# Altium schematic symbol library 野火_F429_F767_H743挑战者_底板_V2_0_原理图封装库_AD格式.SCHLIB: 126 symbols
Pins are listed as number, name and electrical type; pins without a type are passive.

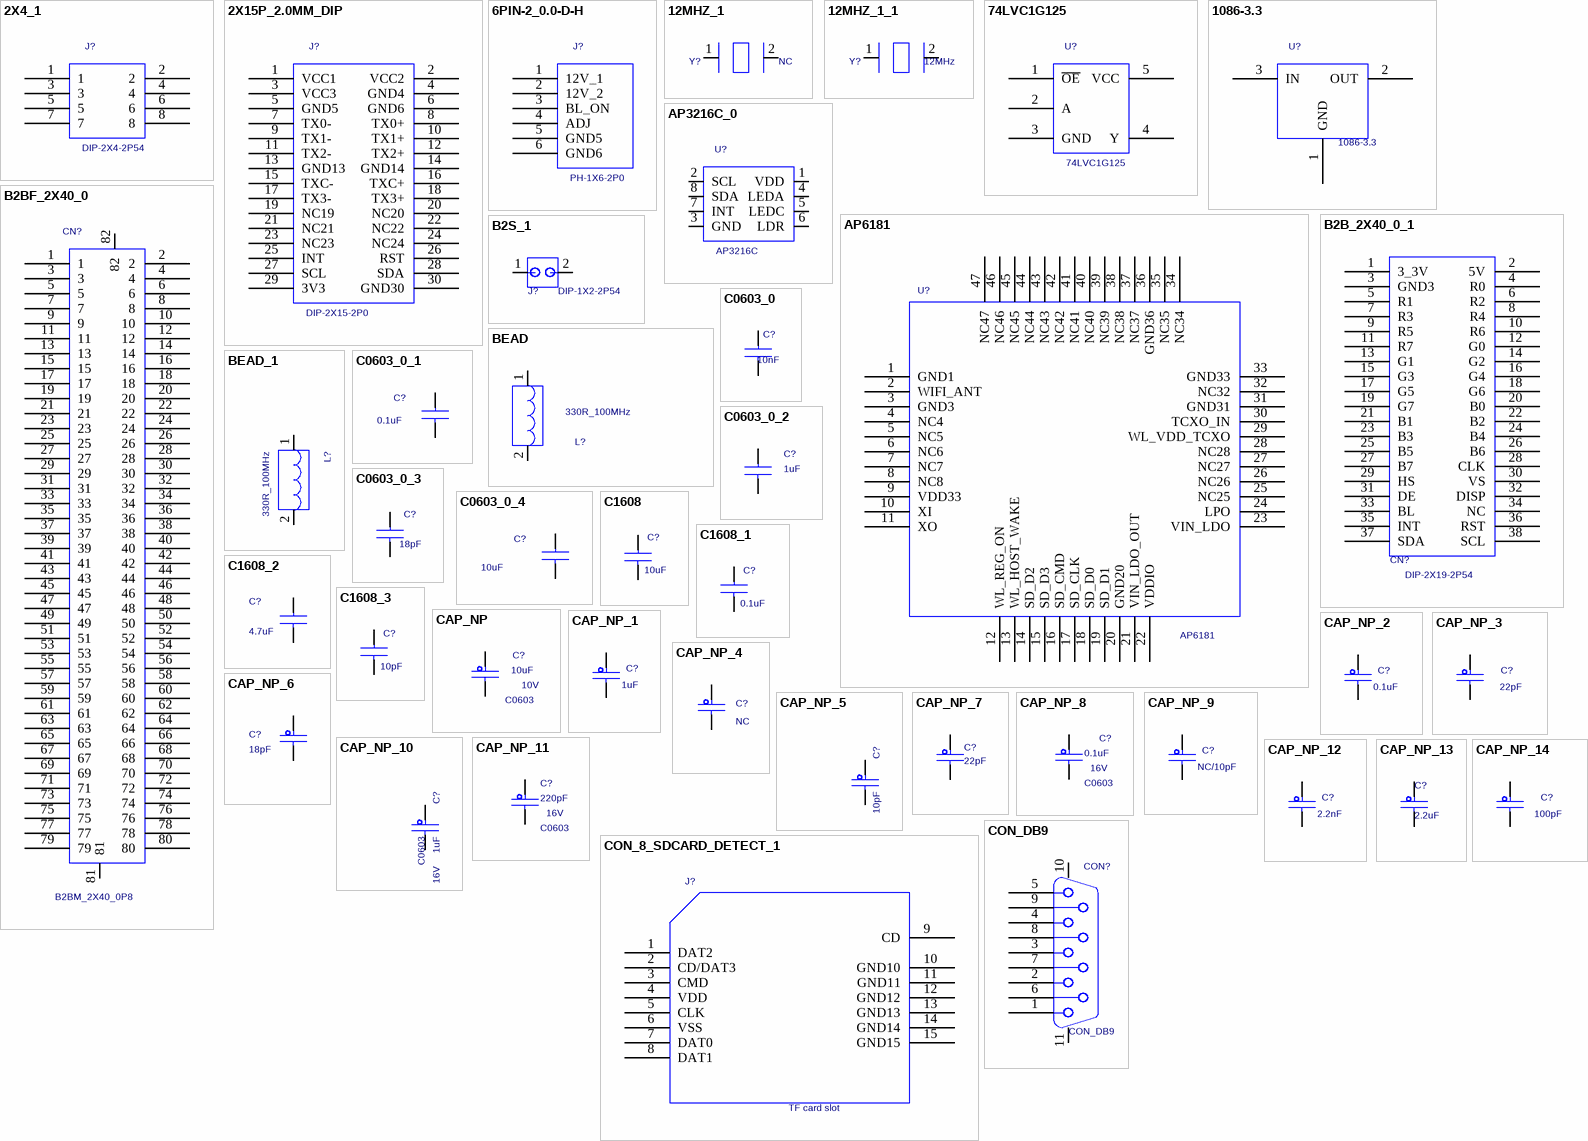
[diagram p0: symbols 2X4_1 to CON_DB9]

## 2X4_1
designator J?  value DIP-2X4-2P54  (hidden comment: 2X4_1)
Source_Path: D:\NXP_RT1050\RT1050_MB_PRO\SCH\IMXRT1052_MB_PRO_0321.DSN; PCB DECAL: DIP-2X4-2P54
footprint DIP-2X4-2P54
pins: 1, 2, 3, 4, 5, 6, 7, 8

## 2X15P_2.0MM_DIP
designator J?  value DIP-2X15-2P0  (hidden comment: 2X15P_2.0MM_DIP)
Source_Path: H:\NXP_RT1050\SCH\SCHLIB\YHSCHLIB.OLB; PCB DECAL: DIP-2X15-2P0
footprint DIP-2X15-2P0
pins: 1 VCC1, 2 VCC2, 3 VCC3, 4 GND4, 5 GND5, 6 GND6, 7 TX0-, 8 TX0+, 9 TX1-, 10 TX1+, 11 TX2-, 12 TX2+, 13 GND13, 14 GND14, 15 TXC-, 16 TXC+, 17 TX3-, 18 TX3+, 19 NC19, 20 NC20, 21 NC21, 22 NC22, 23 NC23, 24 NC24, 25 INT, 26 RST, 27 SCL, 28 SDA, 29 3V3, 30 GND30

## 6PIN-2_0.0-D-H
designator J?  value PH-1X6-2P0  (hidden comment: 6PIN-2_0.0-D-H)
Source_Path: H:\NXP_RT1050\SCH\IMXRT1052_MB.DSN; PCB DECAL: PH-1X6-2P0
footprint PH-1X6-2P0
pins: 1 12V_1, 2 12V_2, 3 BL_ON, 4 ADJ, 5 GND5, 6 GND6

## 12MHZ_1
designator Y?  value NC  (hidden comment: 12MHZ_1)
PCB DECAL: XTAL-DIP; Source_Path: H:\NXP_RT1050\SCH\IMXRT1052_MB.DSN
footprint XTAL-DIP
pins: 1, 2

## 12MHZ_1_1
designator Y?, comment value 12MHz  (hidden comment: 12MHZ_1)
PCB DECAL: XTAL_SMD; Source_Path: H:\NXP_RT1050\SCH\IMXRT1052_MB.DSN
footprint XTAL_SMD
pins: 1, 2

## 74LVC1G125
designator U?
PCB DECAL: SOT-353; Source_Path: C:\MYPROGRAM\CADENCE\SPB_16.6\TOOLS\CAPTURE\LIBRARY\SCH.OLB; Value: 74LVC1G125
footprint SOT-353
pins: 1 ~{OE}, 2 A, 3 GND, 4 Y, 5 VCC

## 1086-3.3
designator U?
PCB DECAL: TO252-2; Source_Path: H:\NXP_RT1050\SCH\SCHLIB\YHSCHLIB.OLB; Value: 1086-3.3
footprint TO252-2
pins: 1 GND, 2 OUT, 3 IN

## AP3216C_0
designator U?  value AP3216C  (hidden comment: AP3216C_0)
Source_Path: D:\NXP_RT1050\RT1050_MB_PRO\SCH\IMXRT1052_MB_PRO_0414.DSN; PCB DECAL: AP3216C
footprint AP3216C
pins: 1 VDD, 2 SCL, 3 GND, 4 LEDA, 5 LEDC, 6 LDR, 7 INT, 8 SDA

## AP6181
designator U?
Source_Path: H:\NXP_RT1050\SCH\SCHLIB\YHSCHLIB.OLB; PCB DECAL: AP6181; Value: AP6181
footprint AP6181
pins: 1 GND1, 2 WIFI_ANT, 3 GND3, 4 NC4, 5 NC5, 6 NC6, 7 NC7, 8 NC8, 9 VDD33, 10 XI, 11 XO, 12 WL_REG_ON, 13 WL_HOST_WAKE, 14 SD_D2, 15 SD_D3, 16 SD_CMD, 17 SD_CLK, 18 SD_D0, 19 SD_D1, 20 GND20, 21 VIN_LDO_OUT, 22 VDDIO, 23 VIN_LDO, 24 LPO, 25 NC25, 26 NC26, 27 NC27, 28 NC28, 29 WL_VDD_TCXO, 30 TCXO_IN, 31 GND31, 32 NC32, 33 GND33, 34 NC34, 35 NC35, 36 GND36, 37 NC37, 38 NC38, 39 NC39, 40 NC40, 41 NC41, 42 NC42, 43 NC43, 44 NC44, 45 NC45, 46 NC46, 47 NC47

## B2B_2X40_0_1
designator CN?  value DIP-2X19-2P54  (hidden comment: B2B_2X40_0_1)
Source_Path: H:\NXP_RT1050\SCH\IMXRT1052_MB.DSN; PCB DECAL: DIP-2X19-2P54
footprint DIP-2X19-2P54
pins: 1 3_3V, 2 5V, 3 GND3, 4 R0, 5 R1, 6 R2, 7 R3, 8 R4, 9 R5, 10 R6, 11 R7, 12 G0, 13 G1, 14 G2, 15 G3, 16 G4, 17 G5, 18 G6, 19 G7, 20 B0, 21 B1, 22 B2, 23 B3, 24 B4, 25 B5, 26 B6, 27 B7, 28 CLK, 29 HS, 30 VS, 31 DE, 32 DISP, 33 BL, 34 NC, 35 INT, 36 RST, 37 SDA, 38 SCL

## B2BF_2X40_0
designator CN?  value B2BM_2X40_0P8  (hidden comment: B2BF_2X40_0)
PCB DECAL: B2BM-2X40-0P8; Source_Path: F:\STM32\H750\SCH\野火_H750 PRO底板_原理图_V1_0.DSN
footprint B2BM-2X40-0P8
pins: 1, 2, 3, 4, 5, 6, 7, 8, 9, 10, 11, 12, 13, 14, 15, 16, 17, 18, 19, 20, 21, 22, 23, 24, 25, 26, 27, 28, 29, 30, 31, 32, 33, 34, 35, 36, 37, 38, 39, 40, 41, 42, 43, 44, 45, 46, 47, 48, 49, 50, 51, 52, 53, 54, 55, 56, 57, 58, 59, 60, 61, 62, 63, 64, 65, 66, 67, 68, 69, 70, 71, 72, 73, 74, 75, 76, 77, 78, 79, 80, 81, 82

## B2S_1
designator J?  value DIP-1X2-2P54  (hidden comment: B2S_1)
PCB DECAL: HDR102; Source_Path: F:\STM32\F429\SCH\V4\STM32F429_F767_H743_MB_1129.DSN
footprint HDR102
pins: 1, 2

## BEAD
designator L?  value 330R_100MHz  (hidden comment: BEAD)
IND FER BEAD 330OHM@100MHZ 1.7A 0603; PART_TYPE: FERRITE\BEAD; PCB DECAL: L0603; AGILE_PN: 180-78156; Tolerance: 25%; MFG_NAME01: TDK; MFG_PN01: MPZ1608S331A; CAD_APPROVED: Yes; Source_Path: Q:\ORCADCIS\SYMBOLS\FCL_INDUCTOR.OLB; CLASS: DISCRETE; ROHS: Yes; HEIGHT: 0.95MM; TOL: 25%
footprint L0603
pins: 1, 2

## BEAD_1
designator L?, comment value 330R_100MHz  (hidden comment: BEAD)
PCB DECAL: L0603; Source_Path: Q:\ORCADCIS\SYMBOLS\FCL_INDUCTOR.OLB; CLASS: DISCRETE
footprint L0603
pins: 1, 2

## C0603_0
designator C?  value 10nF  (hidden comment: C0603_0)
PCB DECAL: C0603; Source_Path: E:\WORK\迅为\郭建岭\4412核心板_底板\谭工_底板\MAINBOARD_V1-1128.DSN
footprint C0603
pins: 1, 2

## C0603_0_1
designator C?, comment value 0.1uF  (hidden comment: C0603_0)
PCB DECAL: C0603; Source_Path: E:\WORK\迅为\郭建岭\4412核心板_底板\谭工_底板\MAINBOARD_V1-1128.DSN
footprint C0603
pins: 1, 2

## C0603_0_2
designator C?, comment value 1uF  (hidden comment: C0603_0)
PCB DECAL: C0603; Source_Path: E:\WORK\迅为\郭建岭\4412核心板_底板\谭工_底板\MAINBOARD_V1-1128.DSN
footprint C0603
pins: 1, 2

## C0603_0_3
designator C?, comment value 18pF  (hidden comment: C0603_0)
PCB DECAL: C0603; Source_Path: E:\WORK\迅为\郭建岭\4412核心板_底板\谭工_底板\MAINBOARD_V1-1128.DSN
footprint C0603
pins: 1, 2

## C0603_0_4
designator C?, comment value 10uF  (hidden comment: C0603_0)
PCB DECAL: C0603; Source_Path: E:\WORK\迅为\郭建岭\4412核心板_底板\谭工_底板\MAINBOARD_V1-1128.DSN
footprint C0603
pins: 1, 2

## C1608
designator C?  value 10uF  (hidden comment: C1608)
PCB DECAL: C0603; Source_Path: D:\SOPGODS_VIEW_AP\MOBILE_AP_APPLICATION\LIBRARY\ORCAD\DEVICE.OLB
footprint C0603
pins: 1, 2

## C1608_1
designator C?, comment value 0.1uF  (hidden comment: C1608)
PCB DECAL: C0603; Source_Path: D:\SOPGODS_VIEW_AP\MOBILE_AP_APPLICATION\LIBRARY\ORCAD\DEVICE.OLB
footprint C0603
pins: 1, 2

## C1608_2
designator C?, comment value 4.7uF  (hidden comment: C1608)
PCB DECAL: C0603; Source_Path: D:\SOPGODS_VIEW_AP\MOBILE_AP_APPLICATION\LIBRARY\ORCAD\DEVICE.OLB
footprint C0603
pins: 1, 2

## C1608_3
designator C?, comment value 10pF  (hidden comment: C1608)
PCB DECAL: C0603; Source_Path: D:\SOPGODS_VIEW_AP\MOBILE_AP_APPLICATION\LIBRARY\ORCAD\DEVICE.OLB
footprint C0603
pins: 1, 2

## CAP_NP
designator C?  value 10uF  PCB DECAL: C0603  voltage_rating: 10V  (hidden comment: CAP_NP)
CAP CER 22UF 6.3V 20% X5R 0603; FPLIST: CC0603_OV,CC0603,0603_CC; CAD_APPROVED: Yes; MFG_PN01: CL10A226MQ8NRNE; MFG_NAME01: Samsung; AGILE_PN: 150-78467; Source_Path: Q:\ORCADCIS\SYMBOLS\FCL_CAPACITOR.OLB; CLASS: DISCRETE; VOLTAGE: 6.3V; HEIGHT: 1MM; ROHS: Yes; Tolerance: 20%
footprint C0603
pins: 1, 2

## CAP_NP_1
designator C?, comment value 1uF  (hidden comment: CAP_NP)
CAP CER 0.1UF 10V 10% X5R 0402; FPLIST: CC0402_25,CC0402_HD,0402_CC; CAD_APPROVED: Yes; MFG_PN01: C0402C104K8PAC; MFG_NAME01: KEMET; AGILE_PN: 150-75634; PCB DECAL: C0603; Source_Path: Q:\ORCADCIS\SYMBOLS\FCL_CAPACITOR.OLB; CLASS: DISCRETE; VOLTAGE: 10V; HEIGHT: 0.64MM; ROHS: Yes; Tolerance: 10%
footprint C0603
pins: 1, 2

## CAP_NP_2
designator C?, comment value 0.1uF  (hidden comment: CAP_NP)
CAP CER 0.1UF 10V 10% X5R 0402; FPLIST: CC0402_25,CC0402_HD,0402_CC; CAD_APPROVED: Yes; MFG_PN01: C0402C104K8PAC; MFG_NAME01: KEMET; AGILE_PN: 150-75634; PCB DECAL: C0603; Source_Path: Q:\ORCADCIS\SYMBOLS\FCL_CAPACITOR.OLB; CLASS: DISCRETE; VOLTAGE: 10V; HEIGHT: 0.64MM; ROHS: Yes; Tolerance: 10%
footprint C0603
pins: 1, 2

## CAP_NP_3
designator C?, comment value 22pF  (hidden comment: CAP_NP)
CAP CER 0.1UF 10V 10% X5R 0402; AGILE_PN: 150-75634; MFG_NAME01: KEMET; MFG_PN01: C0402C104K8PAC; CAD_APPROVED: Yes; FPLIST: CC0402_25,CC0402_HD,0402_CC; PCB DECAL: C0603; Source_Path: Q:\ORCADCIS\SYMBOLS\FCL_CAPACITOR.OLB; CLASS: DISCRETE; Tolerance: 10%; ROHS: Yes; HEIGHT: 0.64MM; VOLTAGE: 10V
footprint C0603
pins: 1, 2

## CAP_NP_4
designator C?, comment value NC  (hidden comment: CAP_NP)
CAP CER 0.1UF 10V 10% X5R 0402; FPLIST: CC0402_25,CC0402_HD,0402_CC; CAD_APPROVED: Yes; MFG_PN01: C0402C104K8PAC; MFG_NAME01: KEMET; AGILE_PN: 150-75634; PCB DECAL: C0603; Source_Path: Q:\ORCADCIS\SYMBOLS\FCL_CAPACITOR.OLB; CLASS: DISCRETE; VOLTAGE: 10V; HEIGHT: 0.64MM; ROHS: Yes; Tolerance: 10%
footprint C0603
pins: 1, 2

## CAP_NP_5
designator C?, comment value 10pF  (hidden comment: CAP_NP)
CAP CER 0.1UF 10V 10% X5R 0402; FPLIST: CC0402_25,CC0402_HD,0402_CC; CAD_APPROVED: Yes; MFG_PN01: C0402C104K8PAC; MFG_NAME01: KEMET; AGILE_PN: 150-75634; PCB DECAL: C0603; Source_Path: Q:\ORCADCIS\SYMBOLS\FCL_CAPACITOR.OLB; CLASS: DISCRETE; VOLTAGE: 10V; HEIGHT: 0.64MM; ROHS: Yes; Tolerance: 10%
footprint C0603
pins: 1, 2

## CAP_NP_6
designator C?, comment value 18pF  (hidden comment: CAP_NP)
CAP CER 0.1UF 10V 10% X5R 0402; AGILE_PN: 150-75634; MFG_NAME01: KEMET; MFG_PN01: C0402C104K8PAC; CAD_APPROVED: Yes; FPLIST: CC0402_25,CC0402_HD,0402_CC; PCB DECAL: C0603; Source_Path: Q:\ORCADCIS\SYMBOLS\FCL_CAPACITOR.OLB; CLASS: DISCRETE; Tolerance: 10%; ROHS: Yes; HEIGHT: 0.64MM; VOLTAGE: 10V
footprint C0603
pins: 1, 2

## CAP_NP_7
designator C?, comment value 22pF  (hidden comment: CAP_NP)
CAP CER 4.7PF 50V 0.25PF C0G 0402; AGILE_PN: 150-76335; MFG_NAME01: MURATA; MFG_PN01: GRM1555C1H4R7CA01D; CAD_APPROVED: Yes; FPLIST: CC0402_25,CC0402_HD,0402_CC; PCB DECAL: C0603; Source_Path: Q:\ORCADCIS\SYMBOLS\FCL_CAPACITOR.OLB; CLASS: DISCRETE; Tolerance: 0.25pF; ROHS: Yes; HEIGHT: 0.55MM; VOLTAGE: 50V
footprint C0603
pins: 1, 2

## CAP_NP_8
designator C?, comment value 0.1uF  voltage_rating: 16V  PCB DECAL: C0603  (hidden comment: CAP_NP)
CAP CER 22UF 6.3V 20% X5R 0603; FPLIST: CC0603_OV,CC0603,0603_CC; CAD_APPROVED: Yes; MFG_PN01: CL10A226MQ8NRNE; MFG_NAME01: Samsung; AGILE_PN: 150-78467; Source_Path: Q:\ORCADCIS\SYMBOLS\FCL_CAPACITOR.OLB; CLASS: DISCRETE; VOLTAGE: 6.3V; HEIGHT: 1MM; ROHS: Yes; Tolerance: 20%
footprint C0603
pins: 1, 2

## CAP_NP_9
designator C?, comment value NC/10pF  (hidden comment: CAP_NP)
CAP CER 0.1UF 10V 10% X5R 0402; FPLIST: CC0402_25,CC0402_HD,0402_CC; CAD_APPROVED: Yes; MFG_PN01: C0402C104K8PAC; MFG_NAME01: KEMET; AGILE_PN: 150-75634; PCB DECAL: C0603; Source_Path: Q:\ORCADCIS\SYMBOLS\FCL_CAPACITOR.OLB; CLASS: DISCRETE; VOLTAGE: 10V; HEIGHT: 0.64MM; ROHS: Yes; Tolerance: 10%
footprint C0603
pins: 1, 2

## CAP_NP_10
designator C?, comment value 1uF  PCB DECAL: C0603  voltage_rating: 16V  (hidden comment: CAP_NP)
CAP CER 22UF 6.3V 20% X5R 0603; FPLIST: CC0603_OV,CC0603,0603_CC; CAD_APPROVED: Yes; MFG_PN01: CL10A226MQ8NRNE; MFG_NAME01: Samsung; AGILE_PN: 150-78467; Source_Path: Q:\ORCADCIS\SYMBOLS\FCL_CAPACITOR.OLB; CLASS: DISCRETE; VOLTAGE: 6.3V; HEIGHT: 1MM; ROHS: Yes; Tolerance: 20%
footprint C0603
pins: 1, 2

## CAP_NP_11
designator C?, comment value 220pF  voltage_rating: 16V  PCB DECAL: C0603  (hidden comment: CAP_NP)
CAP CER 22UF 6.3V 20% X5R 0603; FPLIST: CC0603_OV,CC0603,0603_CC; CAD_APPROVED: Yes; MFG_PN01: CL10A226MQ8NRNE; MFG_NAME01: Samsung; AGILE_PN: 150-78467; Source_Path: Q:\ORCADCIS\SYMBOLS\FCL_CAPACITOR.OLB; CLASS: DISCRETE; VOLTAGE: 6.3V; HEIGHT: 1MM; ROHS: Yes; Tolerance: 20%
footprint C0603
pins: 1, 2

## CAP_NP_12
designator C?, comment value 2.2nF  (hidden comment: CAP_NP)
CAP CER 0.1UF 10V 10% X5R 0402; AGILE_PN: 150-75634; MFG_NAME01: KEMET; MFG_PN01: C0402C104K8PAC; CAD_APPROVED: Yes; FPLIST: CC0402_25,CC0402_HD,0402_CC; PCB DECAL: C0603; Source_Path: Q:\ORCADCIS\SYMBOLS\FCL_CAPACITOR.OLB; CLASS: DISCRETE; Tolerance: 10%; ROHS: Yes; HEIGHT: 0.64MM; VOLTAGE: 10V
footprint C0603
pins: 1, 2

## CAP_NP_13
designator C?, comment value 2.2uF  (hidden comment: CAP_NP)
CAP CER 0.1UF 10V 10% X5R 0402; PCB DECAL: C0603; AGILE_PN: 150-75634; MFG_NAME01: KEMET; MFG_PN01: C0402C104K8PAC; CAD_APPROVED: Yes; FPLIST: CC0402_25,CC0402_HD,0402_CC; Source_Path: Q:\ORCADCIS\SYMBOLS\FCL_CAPACITOR.OLB; CLASS: DISCRETE; Tolerance: 10%; ROHS: Yes; HEIGHT: 0.64MM; VOLTAGE: 10V
footprint C0603
pins: 1, 2

## CAP_NP_14
designator C?, comment value 100pF  (hidden comment: CAP_NP)
CAP CER 0.1UF 10V 10% X5R 0402; FPLIST: CC0402_25,CC0402_HD,0402_CC; CAD_APPROVED: Yes; MFG_PN01: C0402C104K8PAC; MFG_NAME01: KEMET; AGILE_PN: 150-75634; PCB DECAL: C0603; Source_Path: Q:\ORCADCIS\SYMBOLS\FCL_CAPACITOR.OLB; CLASS: DISCRETE; VOLTAGE: 10V; HEIGHT: 0.64MM; ROHS: Yes; Tolerance: 10%
footprint C0603
pins: 1, 2

## CON_8_SDCARD_DETECT_1
designator J?  value TF card slot  (hidden comment: CON_8_SDCARD_DETECT_1)
CON 8 SKT SD/MMC PUSH-PUSH RA SMT 1.1MM SP 83H AU; AGILE_PN: 211-80105; MFG_NAME01: ANYTRONIC CORPORATION LIMITED; MFG_PN01: 95060030-14RRF; CAD_APPROVED: Yes; PCB DECAL: TFCARD; Source_Path: H:\NXP_RT1050\SCH\IMXRT1052_MB.DSN; CLASS: IO; ROHS: Yes; HEIGHT: 2.1 MM
footprint TFCARD
pins: 1 DAT2, 2 CD/DAT3, 3 CMD, 4 VDD (power), 5 CLK, 6 VSS (power), 7 DAT0, 8 DAT1, 9 CD, 10 GND10, 11 GND11, 12 GND12, 13 GND13, 14 GND14, 15 GND15

## CON_DB9
designator CON?
PCB DECAL: DB9-M; Source_Path: E:\WORK\LIB\ORCAD_SCH\MYLIB_10120926.OLB; Value: CON_DB9
footprint DB9-M
pins: 1, 2, 3, 4, 5, 6, 7, 8, 9, 10, 11

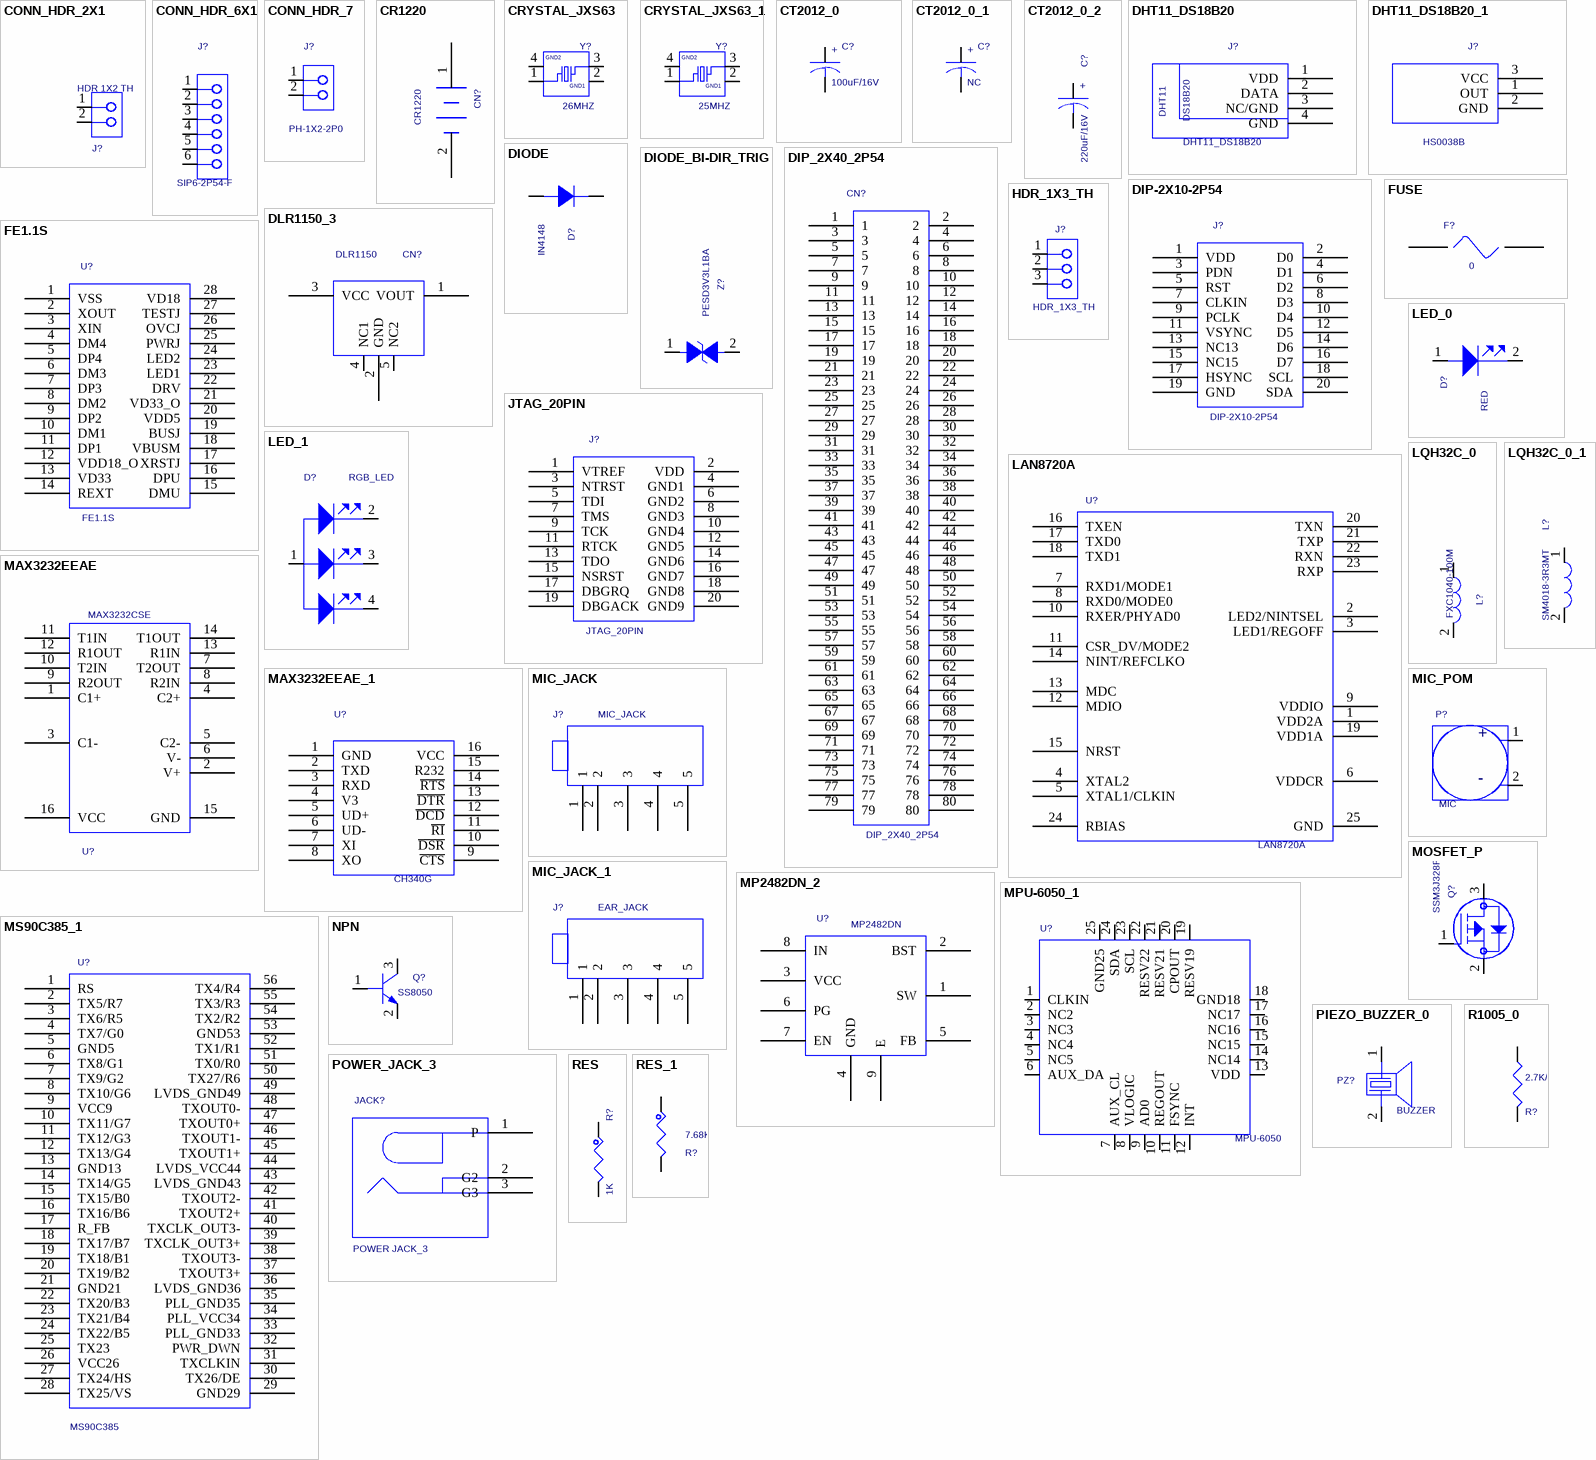
[diagram p1: symbols CONN_HDR_2X1 to RES_1]

## CONN_HDR_2X1
designator J?  value HDR 1X2 TH  (hidden comment: CONN_HDR_2X1)
HDR 1X2 TH 100MIL SP 339H AU 98L; CAD_APPROVED: YES; MFG_PN01: TSW-102-07-G-S; MFG_NAME01: SAMTEC; AGILE_PN: 210-75439; PCB DECAL: CON_2PIN; Source_Path: Q:\ORCADCIS\SYMBOLS\FCL_CONNECTOR.OLB; CLASS: IO; HEIGHT: 8.71 MM; ROHS: Yes
footprint CON_2PIN
pins: 1, 2

## CONN_HDR_6X1
designator J?  value SIP6-2P54-F  (hidden comment: CONN_HDR_6X1)
CON 1X6 SKT TH 100MIL SP 344H AU 118L; PCB DECAL: SIP6-2P54; AGILE_PN: 210-81616; MFG_NAME01: ANYTRONIC CORPORATION LIMITED; MFG_PN01: 08001S3 0611-29RF; Temp_Range: -40°C to +105°C; ASSY_OPT: DNP; CAD_APPROVED: Yes; Source_Path: Q:\ORCADCIS\SYMBOLS\FCL_CONNECTOR.OLB; CLASS: IO; ROHS: Yes; HEIGHT: 8.75MM
footprint SIP6-2P54
pins: 1, 2, 3, 4, 5, 6

## CONN_HDR_7
designator J?  value PH-1X2-2P0  (hidden comment: CONN_HDR_7)
HDR 1X2 TH 100MIL SP 339H AU 98L; CAD_APPROVED: YES; ASSY_OPT: DNP; MFG_PN01: TSW-102-07-G-S; MFG_NAME01: SAMTEC; AGILE_PN: 210-75439; Source_Path: F:\STM32\LITEOS开发板\SCH\LITEOS_EVK_1013_1.DSN; CLASS: IO; PCB DECAL: PH-1X2-2P0; HEIGHT: 8.71 MM; ROHS: Yes
footprint PH-1X2-2P0
pins: 1, 2

## CR1220
designator CN?
Source_Path: H:\NXP_RT1050\SCH\SCHLIB\YHSCHLIB.OLB; PCB DECAL: CR1220; Value: CR1220
footprint CR1220
pins: 1 BAT, 2 GND

## CRYSTAL_JXS63
designator Y?  value 26MHZ  (hidden comment: CRYSTAL_JXS63)
XTAL 24MHZ -- 30PPM 3.2X2.5MM SMD; CAD_APPROVED: Yes; MFG_PN01: 7V24000002; MFG_NAME01: TXC CORP; AGILE_PN: 230-77452; PCB DECAL: 3225; Source_Path: Q:\ORCADCIS\SYMBOLS\FCL_XTAL_OSC.OLB; CLASS: IC; HEIGHT: 0.9MM; ROHS: Yes
footprint 3225
pins: 1, 2 GND1 (power), 3, 4 GND2 (power)

## CRYSTAL_JXS63_1
designator Y?, comment value 25MHZ  (hidden comment: CRYSTAL_JXS63)
XTAL 24MHZ -- 30PPM 3.2X2.5MM SMD; PCB DECAL: 3225; CAD_APPROVED: Yes; MFG_PN01: 7V24000002; MFG_NAME01: TXC CORP; AGILE_PN: 230-77452; Source_Path: Q:\ORCADCIS\SYMBOLS\FCL_XTAL_OSC.OLB; CLASS: IC; HEIGHT: 0.9MM; ROHS: Yes
footprint 3225
pins: 1, 2 GND1 (power), 3, 4 GND2 (power)

## CT2012_0
designator C?  value 100uF/16V  (hidden comment: CT2012_0)
PCB DECAL: EC6P3; Source_Path: D:\01_LSI_PROJECT\C100\00.SMDK俺惯\SCHEMATICS\C100\C100_CPU.OLB
footprint EC6P3
pins: 1, 2
text: +

## CT2012_0_1
designator C?, comment value NC  (hidden comment: CT2012_0)
PCB DECAL: CAP100; Source_Path: D:\01_LSI_PROJECT\C100\00.SMDK俺惯\SCHEMATICS\C100\C100_CPU.OLB
footprint CAP100
pins: 1, 2
text: +

## CT2012_0_2
designator C?, comment value 220uF/16V  (hidden comment: CT2012_0)
PCB DECAL: EC6P3; Source_Path: D:\01_LSI_PROJECT\C100\00.SMDK俺惯\SCHEMATICS\C100\C100_CPU.OLB
footprint EC6P3
pins: 1, 2
text: +

## DHT11_DS18B20
designator J?
PCB DECAL: SIP4-2P54; Source_Path: H:\NXP_RT1050\SCH\SCHLIB\YHSCHLIB.OLB; Value: DHT11_DS18B20
footprint SIP4-2P54
pins: 1 VDD, 2 DATA, 3 NC/GND, 4 GND
text: DHT11; DS18B20

## DHT11_DS18B20_1
designator J?  value HS0038B  (hidden comment: DHT11_DS18B20_1)
PCB DECAL: SIP3-2P54; Source_Path: D:\NXP_RT1050\RT1050_MB_PRO\SCH\IMXRT1052_MB_PRO_0413.DSN
footprint SIP3-2P54
pins: 1 OUT, 2 GND, 3 VCC

## DIODE
designator D?  value IN4148  (hidden comment: DIODE)
PCB DECAL: D1206; Source_Path: C:\CADENCE\SPB_16.2\TOOLS\CAPTURE\LIBRARY\DISCRETE.OLB
footprint D1206
pins: 1 A, 2 K

## DIODE_BI-DIR_TRIG
designator Z?  value PESD3V3L1BA  (hidden comment: DIODE_BI-DIR_TRIG)
ROOM: B-VGA_IN; Assembly: NC; PCB DECAL: SOD323; Source_Path: D:\PCB_DATA\ORCAD_LIB\LRY2.OLB; Package: D0603
footprint SOD323
pins: 1, 2

## DIP-2X10-2P54
designator J?
Source_Path: H:\NXP_RT1050\SCH\SCHLIB\YHSCHLIB.OLB; PCB DECAL: DIP-2X10-2P54; Value: DIP-2X10-2P54
footprint DIP-2X10-2P54
pins: 1 VDD, 2 D0, 3 PDN, 4 D1, 5 RST, 6 D2, 7 CLKIN, 8 D3, 9 PCLK, 10 D4, 11 VSYNC, 12 D5, 13 NC13, 14 D6, 15 NC15, 16 D7, 17 HSYNC, 18 SCL, 19 GND, 20 SDA

## DIP_2X40_2P54
designator CN?
PCB DECAL: DIP-2X402P54; Source_Path: D:\NXP_RT1050\RT1050_MB_PRO\SCH\LIBRARY1.OLB; Value: DIP_2X40_2P54
footprint DIP-2X402P54
pins: 1, 2, 3, 4, 5, 6, 7, 8, 9, 10, 11, 12, 13, 14, 15, 16, 17, 18, 19, 20, 21, 22, 23, 24, 25, 26, 27, 28, 29, 30, 31, 32, 33, 34, 35, 36, 37, 38, 39, 40, 41, 42, 43, 44, 45, 46, 47, 48, 49, 50, 51, 52, 53, 54, 55, 56, 57, 58, 59, 60, 61, 62, 63, 64, 65, 66, 67, 68, 69, 70, 71, 72, 73, 74, 75, 76, 77, 78, 79, 80

## DLR1150_3
designator CN?  value DLR1150  (hidden comment: DLR1150_3)
Source_Path: F:\STM32\H750\SCH\野火_H750 PRO底板_原理图_V1_0.DSN; PCB DECAL: DLR1150
footprint DLR1150
pins: 1 VOUT, 2 GND, 3 VCC, 4 NC1, 5 NC2

## FE1.1S
designator U?
PCB DECAL: SSOP-28; Source_Path: G:\开发板代码\郭老师资料\IMX6资料\原理图\SABRESDB_DESIGNFILES\DEVELOP\LIBRARY1.OLB; Value: FE1.1S
footprint SSOP-28
pins: 1 VSS, 2 XOUT, 3 XIN, 4 DM4, 5 DP4, 6 DM3, 7 DP3, 8 DM2, 9 DP2, 10 DM1, 11 DP1, 12 VDD18_O, 13 VD33, 14 REXT, 15 DMU, 16 DPU, 17 XRSTJ, 18 VBUSM, 19 BUSJ, 20 VDD5, 21 VD33_O, 22 DRV, 23 LED1, 24 LED2, 25 PWRJ, 26 OVCJ, 27 TESTJ, 28 VD18

## FUSE
designator F?  value 0  (hidden comment: FUSE)
PCB DECAL: F0805; Source_Path: E:\WORK\LIB\ORCAD_SCH\MYLIB_10120926.OLB
footprint F0805
pins: 1, 2

## HDR_1X3_TH
designator J?
Source_Path: D:\NXP_RT1050\RT1050_MB_PRO\SCH\LIBRARY1.OLB; CLASS: IO; PCB DECAL: HDR_1X3_TH; Value: HDR_1X3_TH
footprint HDR_1X3_TH
pins: 1, 2, 3

## JTAG_20PIN
designator J?
Source_Path: C:\MYPROGRAM\CADENCE\SPB_16.6\TOOLS\CAPTURE\LIBRARY\SCH.OLB; PCB DECAL: JTAG_20PIN; Value: JTAG_20PIN
footprint JTAG_20PIN
pins: 1 VTREF, 2 VDD, 3 NTRST, 4 GND1, 5 TDI, 6 GND2, 7 TMS, 8 GND3, 9 TCK, 10 GND4, 11 RTCK, 12 GND5, 13 TDO, 14 GND6, 15 NSRST, 16 GND7, 17 DBGRQ, 18 GND8, 19 DBGACK, 20 GND9

## LAN8720A
designator U?
PCB DECAL: QFN24; Source_Path: H:\NXP_RT1050\SCH\SCHLIB\YHSCHLIB.OLB; Value: LAN8720A
footprint QFN24
pins: 1 VDD2A, 2 LED2/NINTSEL, 3 LED1/REGOFF, 4 XTAL2, 5 XTAL1/CLKIN, 6 VDDCR, 7 RXD1/MODE1, 8 RXD0/MODE0, 9 VDDIO, 10 RXER/PHYAD0, 11 CSR_DV/MODE2, 12 MDIO, 13 MDC, 14 NINT/REFCLKO, 15 NRST, 16 TXEN, 17 TXD0, 18 TXD1, 19 VDD1A, 20 TXN, 21 TXP, 22 RXN, 23 RXP, 24 RBIAS, 25 GND

## LED_0
designator D?  value RED  (hidden comment: LED_0)
LED GRN SGL 25MA 0603; CAD_APPROVED: Yes; MFG_PN01: KPT-1608SGC; MFG_NAME01: KINGBRIGHT; AGILE_PN: 370-76549; PCB DECAL: LED0603; Source_Path: H:\NXP_RT1050\SCH\IMXRT1052_CORE\CORE\IMXRT1052_1207.DSN; CLASS: IC; HEIGHT: 0.85MM; ROHS: Yes
footprint LED0603
pins: 1 ANODE, 2 CATHODE

## LED_1
designator D?  value RGB_LED  (hidden comment: LED_1)
LED GRN SGL 25MA 0603; CAD_APPROVED: Yes; MFG_PN01: KPT-1608SGC; MFG_NAME01: KINGBRIGHT; AGILE_PN: 370-76549; PCB DECAL: LED_RGB_5MM; Source_Path: F:\STM32\F429\PCB\V4\F429\F429_F767_H743MB\STM32F429_F767_H743_MB_1203.DSN; CLASS: IC; HEIGHT: 0.85MM; ROHS: Yes
footprint LED_RGB_5MM
pins: 1 ANODE, 2 R, 3 G, 4 B

## LQH32C_0
designator L?  value FXC1040-100M  (hidden comment: LQH32C_0)
PCB DECAL: L1040; Source_Path: D:\USER\ALLEGRO\2009\APR\SMDK_S5PC110_BASE\CAPTURE\S5PC110_SMDK_BASE_BD_SCHEMATIC_REV0.0.DSN
footprint L1040
pins: 1, 2

## LQH32C_0_1
designator L?, comment value SM4018-3R3MT  (hidden comment: LQH32C_0)
PCB DECAL: L4018; Source_Path: D:\USER\ALLEGRO\2009\APR\SMDK_S5PC110_BASE\CAPTURE\S5PC110_SMDK_BASE_BD_SCHEMATIC_REV0.0.DSN
footprint L4018
pins: 1, 2

## MAX3232EEAE
designator U?  value MAX3232CSE  (hidden comment: MAX3232EEAE)
PCB DECAL: SOIC16; Source_Path: E:\WORKS\PCB_DESIGN\CADENCE\LIB\PACKAGE_LIB\PACKAGE.OLB
footprint SOIC16
pins: 1 C1+, 2 V+, 3 C1-, 4 C2+, 5 C2-, 6 V-, 7 T2OUT, 8 R2IN, 9 R2OUT, 10 T2IN, 11 T1IN, 12 R1OUT, 13 R1IN, 14 T1OUT, 15 GND (power), 16 VCC (power)

## MAX3232EEAE_1
designator U?  value CH340G  (hidden comment: MAX3232EEAE_1)
PCB DECAL: SOIC16; Source_Path: H:\NXP_RT1050\SCH\IMXRT1052_MB.DSN
footprint SOIC16
pins: 1 GND, 2 TXD, 3 RXD, 4 V3, 5 UD+, 6 UD-, 7 XI, 8 XO, 9 ~{CTS}, 10 ~{DSR}, 11 ~{RI}, 12 ~{DCD}, 13 ~{DTR}, 14 ~{RTS}, 15 R232, 16 VCC (power)

## MIC_JACK
designator J?
PCB DECAL: EAR_JACK; Source_Path: H:\NXP_RT1050\SCH\SCHLIB\YHSCHLIB.OLB; Value: MIC_JACK
footprint EAR_JACK
pins: 1, 2, 3, 4, 5

## MIC_JACK_1
designator J?, comment value EAR_JACK  (hidden comment: MIC_JACK)
Source_Path: H:\NXP_RT1050\SCH\SCHLIB\YHSCHLIB.OLB; PCB DECAL: EAR_JACK
footprint EAR_JACK
pins: 1, 2, 3, 4, 5

## MIC_POM
designator P?  value MIC  (hidden comment: MIC_POM)
AUDIO DEVICE MIC 0.5MA 2V 38-48+/-3dB 2.2KOHM 6MM TH; PCB DECAL: MIC_6X2_2; CAD_APPROVED: Yes; MFG_PN01: EM6022P; MFG_NAME01: Soberton Inc; AGILE_PN: 510-77987; Source_Path: Q:\ORCADCIS\SYMBOLS\FCL_MISC.OLB; CLASS: IC; HEIGHT: 2.4MM; ROHS: Yes
footprint MIC_6X2_2
pins: 1 OUT, 2 GND
text: +; -

## MOSFET_P
designator Q?  value SSM3J328R  (hidden comment: MOSFET_P)
TRAN PMOS PWR 12V 4.3A SOT23; AGILE_PN: 480-77718; MFG_NAME01: INTERNATIONAL RECTIFIER; MFG_PN01: IRLML6401TRPBF; CAD_APPROVED: Yes; Source_Path: Q:\ORCADCIS\SYMBOLS\FCL_SEMICONDUCTOR.OLB; CLASS: IC; PCB DECAL: SOT23; ROHS: Yes; HEIGHT: 1.12MM
footprint SOT23
pins: 1 GATE, 2 SOURCE, 3 DRAIN

## MP2482DN_2
designator U?  value MP2482DN  (hidden comment: MP2482DN_2)
PCB DECAL: SOIC8E; Source_Path: D:\NXP_RT1050\PCB\IMXRT1052-180207\SCH\RT1050_MB_PRO\IMXRT1052_MB_PRO_0320.DSN
footprint SOIC8E
pins: 1 SW, 2 BST, 3 VCC, 4 GND, 5 FB, 6 PG, 7 EN, 8 IN, 9 E (power)

## MPU-6050_1
designator U?  value MPU-6050  (hidden comment: MPU-6050_1)
PCB DECAL: QFN24; Source_Path: H:\NXP_RT1050\SCH\IMXRT1052_MB.DSN
footprint QFN24
pins: 1 CLKIN, 2 NC2, 3 NC3, 4 NC4, 5 NC5, 6 AUX_DA, 7 AUX_CL, 8 VLOGIC, 9 AD0, 10 REGOUT, 11 FSYNC, 12 INT, 13 VDD, 14 NC14, 15 NC15, 16 NC16, 17 NC17, 18 GND18, 19 RESV19, 20 CPOUT, 21 RESV21, 22 RESV22, 23 SCL, 24 SDA, 25 GND25

## MS90C385_1
designator U?  value MS90C385  (hidden comment: MS90C385_1)
PCB DECAL: TSSOP56; Source_Path: F:\STM32\F429\SCH\V4\STM32F429_F767_H743_MB.DSN
footprint TSSOP56
pins: 1 RS, 2 TX5/R7, 3 TX6/R5, 4 TX7/G0, 5 GND5, 6 TX8/G1, 7 TX9/G2, 8 TX10/G6, 9 VCC9, 10 TX11/G7, 11 TX12/G3, 12 TX13/G4, 13 GND13, 14 TX14/G5, 15 TX15/B0, 16 TX16/B6, 17 R_FB, 18 TX17/B7, 19 TX18/B1, 20 TX19/B2, 21 GND21, 22 TX20/B3, 23 TX21/B4, 24 TX22/B5, 25 TX23, 26 VCC26, 27 TX24/HS, 28 TX25/VS, 29 GND29, 30 TX26/DE, 31 TXCLKIN, 32 PWR_DWN, 33 PLL_GND33, 34 PLL_VCC34, 35 PLL_GND35, 36 LVDS_GND36, 37 TXOUT3+, 38 TXOUT3-, 39 TXCLK_OUT3+, 40 TXCLK_OUT3-, 41 TXOUT2+, 42 TXOUT2-, 43 LVDS_GND43, 44 LVDS_VCC44, 45 TXOUT1+, 46 TXOUT1-, 47 TXOUT0+, 48 TXOUT0-, 49 LVDS_GND49, 50 TX27/R6, 51 TX0/R0, 52 TX1/R1, 53 GND53, 54 TX2/R2, 55 TX3/R3, 56 TX4/R4

## NPN
designator Q?  value SS8050  (hidden comment: NPN)
TRAN NPN GEN 0.5A 45V AEC-Q101 SOT23; CAD_APPROVED: Yes; MFG_PN01: BC817,215; MFG_NAME01: NEXPERIA; AGILE_PN: 480-78842; Source_Path: Q:\ORCADCIS\SYMBOLS\FCL_SEMICONDUCTOR.OLB; CLASS: IC; PCB DECAL: SOT23; HEIGHT: 1.1 MM; ROHS: Yes
footprint SOT23
pins: 1 BASE, 2 EMITTER, 3 COLLECTOR

## PIEZO_BUZZER_0
designator PZ?  value BUZZER  (hidden comment: PIEZO_BUZZER_0)
Source_Path: D:\NXP_RT1050\RT1050_MB_PRO\SCH\IMXRT1052_MB_PRO_0417_4.DSN; PCB DECAL: BUZZER
footprint BUZZER
pins: 1 +, 2 -

## POWER_JACK_3
designator JACK?  value POWER JACK_3  (hidden comment: POWER_JACK_3)
PCB DECAL: JACK-2_5MM_B; Source_Path: E:\WORK\SCH5\X\SCH\DEVELOP_BOARD_V1-5-21.DSN
footprint JACK-2_5MM_B
pins: 1 P, 2 G2, 3 G3

## R1005_0
designator R?  value 2.7K/1%  (hidden comment: R1005_0)
PCB DECAL: R0603; Source_Path: D:\SOPGODS_VIEW_AP\MOBILE_AP_APPLICATION\S3C6410\OUTPUT_DATA\HW\SMDK\INTEGRATION_BOARD\SMDK6410_CPU_BD_SCHEMATICS_REV0.0_EDITING.DSN
footprint R0603
pins: 1, 2

## RES
designator R?  value 1K  (hidden comment: RES)
RES MF ZERO OHM 1/16W 5% 0402; FPLIST: RC0402_25,RC0402_HD,RC0402_X2,0402_CC; CAD_APPROVED: Yes; MFG_PN01: MCR01MZPJ000; MFG_NAME01: ROHM; AGILE_PN: 470-75394; PCB DECAL: R0603; Source_Path: Q:\ORCADCIS\SYMBOLS\FCL_RESISTOR.OLB; CLASS: DISCRETE; ROHS: Yes; Tolerance: 5%; HEIGHT: 0.45 MM
footprint R0603
pins: 1, 2

## RES_1
designator R?, comment value 7.68K  (hidden comment: RES)
RES MF 1.0M 1/10W 5% 0402; FPLIST: RC0402_25,RC0402_HD,0402_CC; CAD_APPROVED: Yes; MFG_PN01: ERJ-2GEJ105X; MFG_NAME01: PANASONIC; AGILE_PN: 470-79978; PCB DECAL: R0603; Source_Path: Q:\ORCADCIS\SYMBOLS\FCL_RESISTOR.OLB; CLASS: DISCRETE; ROHS: Yes; Tolerance: 5%; HEIGHT: 0.4MM
footprint R0603
pins: 1, 2

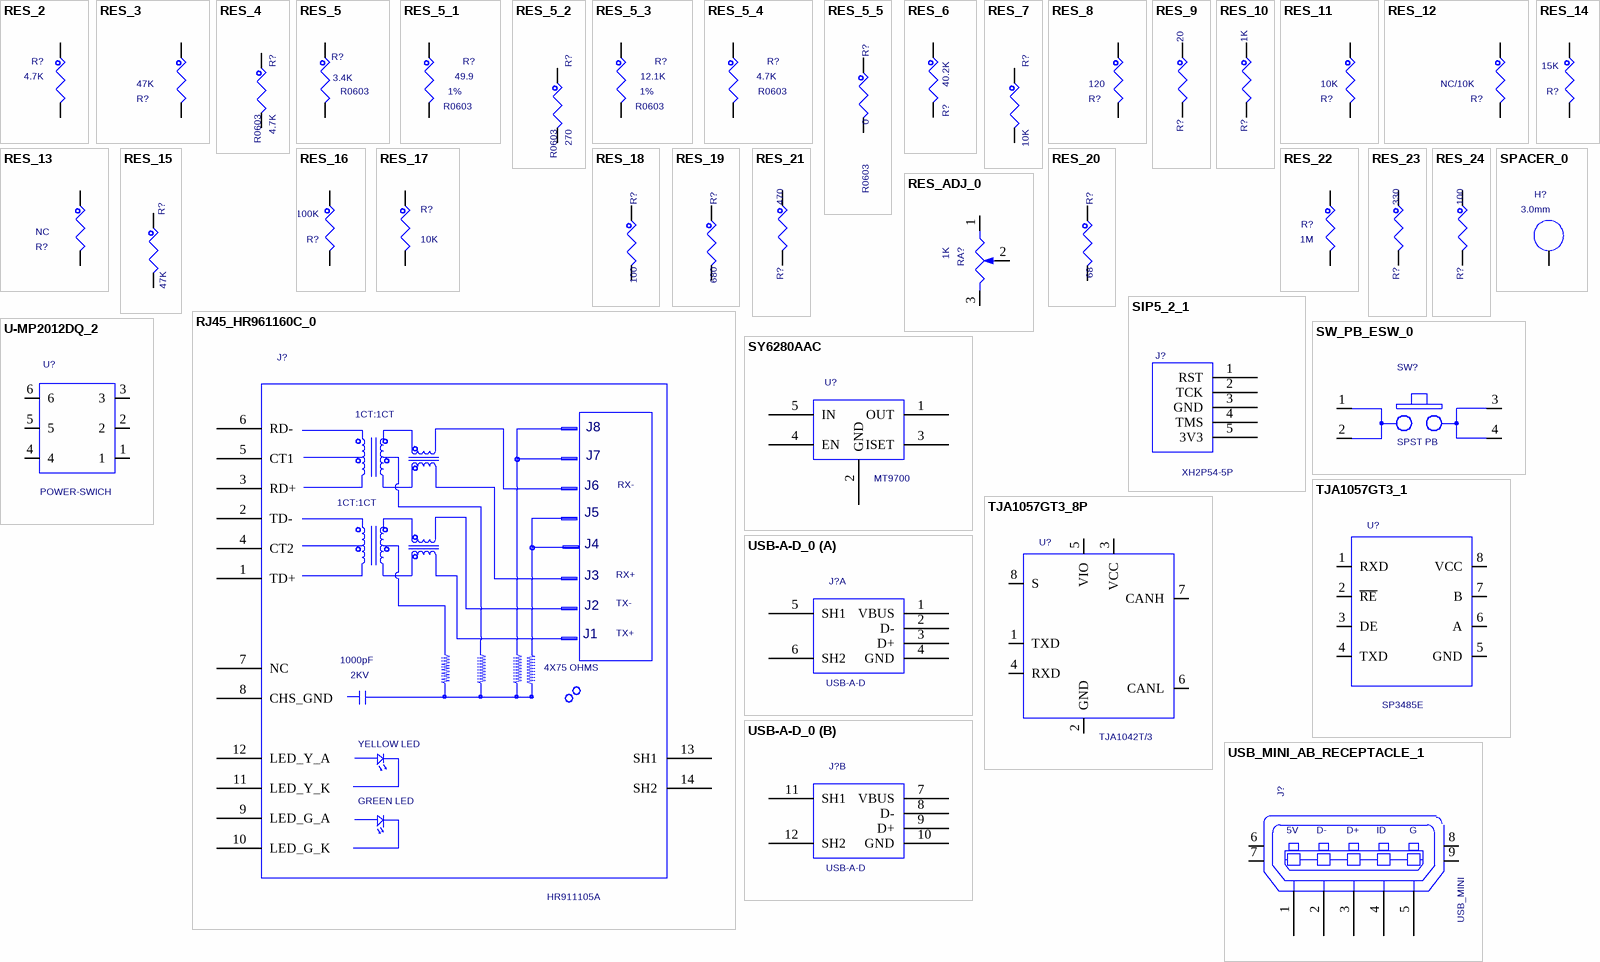
[diagram p2: symbols RES_2 to USB_MINI_AB_RECEPTACLE_1]

## RES_2
designator R?, comment value 4.7K  (hidden comment: RES)
RES MF 1.0M 1/10W 5% 0402; FPLIST: RC0402_25,RC0402_HD,0402_CC; CAD_APPROVED: Yes; MFG_PN01: ERJ-2GEJ105X; MFG_NAME01: PANASONIC; AGILE_PN: 470-79978; PCB DECAL: R0603; Source_Path: Q:\ORCADCIS\SYMBOLS\FCL_RESISTOR.OLB; CLASS: DISCRETE; ROHS: Yes; Tolerance: 5%; HEIGHT: 0.4MM
footprint R0603
pins: 1, 2

## RES_3
designator R?, comment value 47K  (hidden comment: RES)
RES MF 1.0M 1/10W 5% 0402; PCB DECAL: R0603; AGILE_PN: 470-79978; MFG_NAME01: PANASONIC; MFG_PN01: ERJ-2GEJ105X; CAD_APPROVED: Yes; FPLIST: RC0402_25,RC0402_HD,0402_CC; Source_Path: Q:\ORCADCIS\SYMBOLS\FCL_RESISTOR.OLB; CLASS: DISCRETE; HEIGHT: 0.4MM; Tolerance: 5%; ROHS: Yes
footprint R0603
pins: 1, 2

## RES_4
designator R?  value 4.7K  PCB DECAL: R0603  (hidden comment: RES_4)
RES MF 4.7K 1/16W 5% 0402; AGILE_PN: 470-75626; MFG_NAME01: KOA SPEER; MFG_PN01: RK73B1ETTP472J; CAD_APPROVED: Yes; FPLIST: RC0402_25,RC0402_HD,0402_CC; CLASS: DISCRETE; Source_Path: F:\NXP\RT1020\SCH\IMXRT1021_0928.DSN; Tolerance: 5%; ROHS: Yes; HEIGHT: 0.41mm
footprint R0603
pins: 1, 2

## RES_5
designator R?  value 3.4K  PCB DECAL: R0603  (hidden comment: RES_5)
RES MF 4.7K 1/16W 5% 0402; AGILE_PN: 470-75626; MFG_NAME01: KOA SPEER; MFG_PN01: RK73B1ETTP472J; CAD_APPROVED: Yes; FPLIST: RC0402_25,RC0402_HD,0402_CC; Source_Path: F:\NXP\RT1020\SCH\IMXRT1021_0928_1.DSN; CLASS: DISCRETE; Tolerance: 5%; ROHS: Yes; HEIGHT: 0.41mm
footprint R0603
pins: 1, 2

## RES_5_1
designator R?, comment value 49.9  Tolerance: 1%  PCB DECAL: R0603  (hidden comment: RES_5)
RES MF 180K 1/10W 1% AEC-Q200 0402; Temp_Range: -55C to +155C; FPLIST: RC0402_25,RC0402_HD,0402_CC; CAD_APPROVED: Yes; MFG_PN01: RK73H1ETTP1803F; MFG_NAME01: KOA SPEER; AGILE_PN: 470-31088; Source_Path: F:\NXP\RT1020\SCH\IMXRT1021_0928_1.DSN; CLASS: DISCRETE; HEIGHT: 0.40 MM; ROHS: Yes
footprint R0603
pins: 1, 2

## RES_5_2
designator R?, comment value 270  PCB DECAL: R0603  (hidden comment: RES_5)
RES MF ZERO OHM 1/16W 5% 0402; FPLIST: RC0402_25,RC0402_HD,RC0402_X2,0402_CC; CAD_APPROVED: Yes; MFG_PN01: MCR01MZPJ000; MFG_NAME01: ROHM; AGILE_PN: 470-75394; Source_Path: F:\NXP\RT1020\SCH\IMXRT1021_0928_1.DSN; CLASS: DISCRETE; ROHS: Yes; Tolerance: 5%; HEIGHT: 0.45 MM
footprint R0603
pins: 1, 2

## RES_5_3
designator R?, comment value 12.1K  Tolerance: 1%  PCB DECAL: R0603  (hidden comment: RES_5)
RES MF 200K 1/10W 1% AEC-Q200 0402; AGILE_PN: 470-31093; MFG_NAME01: KOA SPEER; MFG_PN01: RK73H1ETTP2003F; CAD_APPROVED: Yes; FPLIST: RC0402_25,RC0402_HD,0402_CC; Temp_Range: -55C to +155C; Source_Path: F:\NXP\RT1020\SCH\IMXRT1021_0928_1.DSN; CLASS: DISCRETE; HEIGHT: 0.40 MM; ROHS: Yes
footprint R0603
pins: 1, 2

## RES_5_4
designator R?, comment value 4.7K  PCB DECAL: R0603  (hidden comment: RES_5)
RES MF ZERO OHM 1/16W 5% 0402; FPLIST: RC0402_25,RC0402_HD,RC0402_X2,0402_CC; CAD_APPROVED: Yes; MFG_PN01: MCR01MZPJ000; MFG_NAME01: ROHM; AGILE_PN: 470-75394; Source_Path: F:\NXP\RT1020\SCH\IMXRT1021_0928_1.DSN; CLASS: DISCRETE; ROHS: Yes; Tolerance: 5%; HEIGHT: 0.45 MM
footprint R0603
pins: 1, 2

## RES_5_5
designator R?, comment value 0  PCB DECAL: R0603  (hidden comment: RES_5)
RES MF ZERO OHM 1/16W 5% 0402; FPLIST: RC0402_25,RC0402_HD,RC0402_X2,0402_CC; CAD_APPROVED: Yes; MFG_PN01: MCR01MZPJ000; MFG_NAME01: ROHM; AGILE_PN: 470-75394; Source_Path: F:\NXP\RT1020\SCH\IMXRT1021_0928_1.DSN; CLASS: DISCRETE; ROHS: Yes; Tolerance: 5%; HEIGHT: 0.45 MM
footprint R0603
pins: 1, 2

## RES_6
designator R?, comment value 40.2K  (hidden comment: RES)
RES MF 1.0M 1/10W 5% 0402; PCB DECAL: R0603; FPLIST: RC0402_25,RC0402_HD,0402_CC; CAD_APPROVED: Yes; MFG_PN01: ERJ-2GEJ105X; MFG_NAME01: PANASONIC; AGILE_PN: 470-79978; Source_Path: Q:\ORCADCIS\SYMBOLS\FCL_RESISTOR.OLB; CLASS: DISCRETE; ROHS: Yes; Tolerance: 5%; HEIGHT: 0.4MM
footprint R0603
pins: 1, 2

## RES_7
designator R?, comment value 10K  (hidden comment: RES)
RES MF ZERO OHM 1/16W 5% 0402; FPLIST: RC0402_25,RC0402_HD,RC0402_X2,0402_CC; CAD_APPROVED: Yes; MFG_PN01: MCR01MZPJ000; MFG_NAME01: ROHM; AGILE_PN: 470-75394; PCB DECAL: R0603; Source_Path: Q:\ORCADCIS\SYMBOLS\FCL_RESISTOR.OLB; CLASS: DISCRETE; ROHS: Yes; Tolerance: 5%; HEIGHT: 0.45 MM
footprint R0603
pins: 1, 2

## RES_8
designator R?, comment value 120  (hidden comment: RES)
RES MF 1.0M 1/10W 5% 0402; AGILE_PN: 470-79978; MFG_NAME01: PANASONIC; MFG_PN01: ERJ-2GEJ105X; CAD_APPROVED: Yes; FPLIST: RC0402_25,RC0402_HD,0402_CC; PCB DECAL: R0603; Source_Path: Q:\ORCADCIS\SYMBOLS\FCL_RESISTOR.OLB; CLASS: DISCRETE; HEIGHT: 0.4MM; Tolerance: 5%; ROHS: Yes
footprint R0603
pins: 1, 2

## RES_9
designator R?, comment value 20  (hidden comment: RES)
RES MF 1.0M 1/10W 5% 0402; FPLIST: RC0402_25,RC0402_HD,0402_CC; CAD_APPROVED: Yes; MFG_PN01: ERJ-2GEJ105X; MFG_NAME01: PANASONIC; AGILE_PN: 470-79978; PCB DECAL: R0603; Source_Path: Q:\ORCADCIS\SYMBOLS\FCL_RESISTOR.OLB; CLASS: DISCRETE; ROHS: Yes; Tolerance: 5%; HEIGHT: 0.4MM
footprint R0603
pins: 1, 2

## RES_10
designator R?, comment value 1K  (hidden comment: RES)
RES MF 1.0M 1/10W 5% 0402; FPLIST: RC0402_25,RC0402_HD,0402_CC; CAD_APPROVED: Yes; MFG_PN01: ERJ-2GEJ105X; MFG_NAME01: PANASONIC; AGILE_PN: 470-79978; PCB DECAL: R0603; Source_Path: Q:\ORCADCIS\SYMBOLS\FCL_RESISTOR.OLB; CLASS: DISCRETE; ROHS: Yes; Tolerance: 5%; HEIGHT: 0.4MM
footprint R0603
pins: 1, 2

## RES_11
designator R?, comment value 10K  (hidden comment: RES)
RES MF 1.0M 1/10W 5% 0402; AGILE_PN: 470-79978; MFG_NAME01: PANASONIC; MFG_PN01: ERJ-2GEJ105X; CAD_APPROVED: Yes; FPLIST: RC0402_25,RC0402_HD,0402_CC; PCB DECAL: R0603; Source_Path: Q:\ORCADCIS\SYMBOLS\FCL_RESISTOR.OLB; CLASS: DISCRETE; HEIGHT: 0.4MM; Tolerance: 5%; ROHS: Yes
footprint R0603
pins: 1, 2

## RES_12
designator R?, comment value NC/10K  (hidden comment: RES)
RES MF 1.0M 1/10W 5% 0402; FPLIST: RC0402_25,RC0402_HD,0402_CC; CAD_APPROVED: Yes; MFG_PN01: ERJ-2GEJ105X; MFG_NAME01: PANASONIC; AGILE_PN: 470-79978; PCB DECAL: R0603; Source_Path: Q:\ORCADCIS\SYMBOLS\FCL_RESISTOR.OLB; CLASS: DISCRETE; ROHS: Yes; Tolerance: 5%; HEIGHT: 0.4MM
footprint R0603
pins: 1, 2

## RES_13
designator R?, comment value NC  (hidden comment: RES)
RES MF 1.0M 1/10W 5% 0402; FPLIST: RC0402_25,RC0402_HD,0402_CC; CAD_APPROVED: Yes; MFG_PN01: ERJ-2GEJ105X; MFG_NAME01: PANASONIC; AGILE_PN: 470-79978; PCB DECAL: R0603; Source_Path: Q:\ORCADCIS\SYMBOLS\FCL_RESISTOR.OLB; CLASS: DISCRETE; ROHS: Yes; Tolerance: 5%; HEIGHT: 0.4MM
footprint R0603
pins: 1, 2

## RES_14
designator R?, comment value 15K  (hidden comment: RES)
RES MF 10.0K 1/16W 1% AEC-Q200 0402; PCB DECAL: R0603; SIGNAL_MODEL: DEFAULT_RESISTOR_10000OHM_2_1; AGILE_PN: 470-75416; MFG_NAME01: KOA SPEER; MFG_PN01: RK73H1ETTP1002F; CAD_APPROVED: Yes; FPLIST: RC0402_25,RC0402_HD,0402_CC; CLASS: DISCRETE; Source_Path: Q:\ORCADCIS\SYMBOLS\FCL_RESISTOR.OLB; Tolerance: 1%; ROHS: Yes
footprint R0603
pins: 1, 2

## RES_15
designator R?, comment value 47K  (hidden comment: RES)
RES MF 10.0K 1/16W 1% AEC-Q200 0402; SIGNAL_MODEL: DEFAULT_RESISTOR_10000OHM_2_1; AGILE_PN: 470-75416; MFG_NAME01: KOA SPEER; MFG_PN01: RK73H1ETTP1002F; CAD_APPROVED: Yes; FPLIST: RC0402_25,RC0402_HD,0402_CC; CLASS: DISCRETE; PCB DECAL: R0603; Source_Path: Q:\ORCADCIS\SYMBOLS\FCL_RESISTOR.OLB; Tolerance: 1%; ROHS: Yes
footprint R0603
pins: 1, 2

## RES_16
designator R?, comment value 100K  (hidden comment: RES)
RES MF 10.0K 1/16W 1% AEC-Q200 0402; SIGNAL_MODEL: DEFAULT_RESISTOR_10000OHM_2_1; AGILE_PN: 470-75416; MFG_NAME01: KOA SPEER; MFG_PN01: RK73H1ETTP1002F; CAD_APPROVED: Yes; FPLIST: RC0402_25,RC0402_HD,0402_CC; CLASS: DISCRETE; PCB DECAL: R0603; Source_Path: Q:\ORCADCIS\SYMBOLS\FCL_RESISTOR.OLB; Tolerance: 1%; ROHS: Yes
footprint R0603
pins: 1, 2

## RES_17
designator R?, comment value 10K  (hidden comment: RES)
RES MF 10.0K 1/16W 1% AEC-Q200 0402; CLASS: DISCRETE; FPLIST: RC0402_25,RC0402_HD,0402_CC; CAD_APPROVED: Yes; MFG_PN01: RK73H1ETTP1002F; MFG_NAME01: KOA SPEER; AGILE_PN: 470-75416; SIGNAL_MODEL: DEFAULT_RESISTOR_10000OHM_2_1; PCB DECAL: R0603; Source_Path: Q:\ORCADCIS\SYMBOLS\FCL_RESISTOR.OLB; ROHS: Yes; Tolerance: 1%
footprint R0603
pins: 1, 2

## RES_18
designator R?, comment value 100  (hidden comment: RES)
RES MF 1.0M 1/10W 5% 0402; PCB DECAL: R0603; AGILE_PN: 470-79978; MFG_NAME01: PANASONIC; MFG_PN01: ERJ-2GEJ105X; CAD_APPROVED: Yes; FPLIST: RC0402_25,RC0402_HD,0402_CC; Source_Path: Q:\ORCADCIS\SYMBOLS\FCL_RESISTOR.OLB; CLASS: DISCRETE; HEIGHT: 0.4MM; Tolerance: 5%; ROHS: Yes
footprint R0603
pins: 1, 2

## RES_19
designator R?, comment value 680  (hidden comment: RES)
RES MF 1.0M 1/10W 5% 0402; PCB DECAL: R0603; FPLIST: RC0402_25,RC0402_HD,0402_CC; CAD_APPROVED: Yes; MFG_PN01: ERJ-2GEJ105X; MFG_NAME01: PANASONIC; AGILE_PN: 470-79978; Source_Path: Q:\ORCADCIS\SYMBOLS\FCL_RESISTOR.OLB; CLASS: DISCRETE; ROHS: Yes; Tolerance: 5%; HEIGHT: 0.4MM
footprint R0603
pins: 1, 2

## RES_20
designator R?, comment value 68  (hidden comment: RES)
RES MF 1.0M 1/10W 5% 0402; PCB DECAL: R0603; AGILE_PN: 470-79978; MFG_NAME01: PANASONIC; MFG_PN01: ERJ-2GEJ105X; CAD_APPROVED: Yes; FPLIST: RC0402_25,RC0402_HD,0402_CC; Source_Path: Q:\ORCADCIS\SYMBOLS\FCL_RESISTOR.OLB; CLASS: DISCRETE; HEIGHT: 0.4MM; Tolerance: 5%; ROHS: Yes
footprint R0603
pins: 1, 2

## RES_21
designator R?, comment value 470  (hidden comment: RES)
RES MF 1.0M 1/10W 5% 0402; PCB DECAL: R0603; AGILE_PN: 470-79978; MFG_NAME01: PANASONIC; MFG_PN01: ERJ-2GEJ105X; CAD_APPROVED: Yes; FPLIST: RC0402_25,RC0402_HD,0402_CC; Source_Path: Q:\ORCADCIS\SYMBOLS\FCL_RESISTOR.OLB; CLASS: DISCRETE; HEIGHT: 0.4MM; Tolerance: 5%; ROHS: Yes
footprint R0603
pins: 1, 2

## RES_22
designator R?, comment value 1M  (hidden comment: RES)
RES MF 1.0M 1/10W 5% 0402; FPLIST: RC0402_25,RC0402_HD,0402_CC; CAD_APPROVED: Yes; MFG_PN01: ERJ-2GEJ105X; MFG_NAME01: PANASONIC; AGILE_PN: 470-79978; PCB DECAL: R0603; Source_Path: Q:\ORCADCIS\SYMBOLS\FCL_RESISTOR.OLB; CLASS: DISCRETE; ROHS: Yes; Tolerance: 5%; HEIGHT: 0.4MM
footprint R0603
pins: 1, 2

## RES_23
designator R?, comment value 330  (hidden comment: RES)
RES MF 1.0M 1/10W 5% 0402; PCB DECAL: R0603; AGILE_PN: 470-79978; MFG_NAME01: PANASONIC; MFG_PN01: ERJ-2GEJ105X; CAD_APPROVED: Yes; FPLIST: RC0402_25,RC0402_HD,0402_CC; Source_Path: Q:\ORCADCIS\SYMBOLS\FCL_RESISTOR.OLB; CLASS: DISCRETE; HEIGHT: 0.4MM; Tolerance: 5%; ROHS: Yes
footprint R0603
pins: 1, 2

## RES_24
designator R?, comment value 100  (hidden comment: RES)
RES MF ZERO OHM 1/16W 5% 0402; AGILE_PN: 470-75394; MFG_NAME01: ROHM; MFG_PN01: MCR01MZPJ000; CAD_APPROVED: Yes; FPLIST: RC0402_25,RC0402_HD,RC0402_X2,0402_CC; PCB DECAL: R0603; Source_Path: Q:\ORCADCIS\SYMBOLS\FCL_RESISTOR.OLB; CLASS: DISCRETE; HEIGHT: 0.45 MM; Tolerance: 5%; ROHS: Yes
footprint R0603
pins: 1, 2

## RES_ADJ_0
designator RA?  value 1K  (hidden comment: RES_ADJ_0)
Single Turn Top Adjust, 3362P; Partname: DIP可调电阻 3362; Mfr: Bourns; Mfr_Part_Number: 3362P-1-203LF; Part_Number: RE700010-01; PCB DECAL: RM065-V1; Spec: 20K,3362P-1-203LF(Bourns); Remarks: Checked; Gtech_Number: 50700011202KR0201; Power: 1/2W; Source_Path: D:\NXP_RT1050\PCB\IMXRT1052-180207\SCH\RT1050_MB_PRO\IMXRT1052_MB_PRO_0502.DSN
footprint RM065-V1
pins: 1, 2, 3

## RJ45_HR961160C_0
designator J?  value HR911105A  (hidden comment: RJ45_HR961160C_0)
CON 12 RJ45 SHLD RA SM 1.02MM SP 625H --; AGILE_PN: 211-79967; MFG_NAME01: HanRun Electronics Co., Ltd; CAD_APPROVED: Yes; Source_Path: H:\NXP_RT1050\SCH\IMXRT1052_MB.DSN; CLASS: IO; PCB DECAL: RJ45; MFG_PN01: HR961160C; ROHS: Yes; HEIGHT: 15.88 MM
footprint RJ45
pins: 1 TD+, 2 TD-, 3 RD+, 4 CT2, 5 CT1, 6 RD-, 7 NC, 8 CHS_GND, 9 LED_G_A, 10 LED_G_K, 11 LED_Y_K, 12 LED_Y_A, 13 SH1, 14 SH2
text: 1CT:1CT; J8; J7; RX-; J6; J5; J4; RX+; J3; TX-; J2; TX+; J1; 1000pF; 4X75 OHMS; 2KV; YELLOW LED; GREEN LED

## SIP5_2_1
designator J?  value XH2P54-5P  (hidden comment: SIP5_2_1)
PCB DECAL: XH2P54-5P_1; Source_Path: F:\NXP\RT1020\SCH\IMXRT1021.DSN
footprint XH2P54-5P_1
pins: 1 RST, 2 TCK, 3 GND, 4 TMS, 5 3V3

## SPACER_0
designator H?  value 3.0mm  (hidden comment: SPACER_0)
FASTENER, STANDOFF 4.5MMX3.53XM3.0X0.5 ROUND THR .635"L BRASS; PCB DECAL: T4R2-6R2_TOPSMT; AGILE_PN: 280-76498; MFG_NAME01: UNICORP; MFG_PN01: MSS251-R-1-A-16; ASSY_OPT: DNP; CAD_APPROVED: Yes; Source_Path: H:\NXP_RT1050\SCH\IMXRT1052.DSN; CLASS: IC; ROHS: Yes; HEIGHT: 16.13MM
footprint T4R2-6R2_TOPSMT
pins: 1 NC_1

## SW_PB_ESW_0
designator SW?  value SPST PB  (hidden comment: SW_PB_ESW_0)
SW SPST MOM NO PB TACT 50mA 50V SMT; PCB DECAL: SW4_PB_ESW_SM_P177; AGILE_PN: 510-77562; MFG_NAME01: E SWITCH; MFG_PN01: TL3301AF260QG/TR; CAD_APPROVED: Yes; Source_Path: H:\NXP_RT1050\SCH\IMXRT1052_MB.DSN; CLASS: IC; ROHS: Yes; HEIGHT: 5MM
footprint SW4_PB_ESW_SM_P177
pins: 1 A1, 2 A2, 3 B1, 4 B2

## SY6280AAC
designator U?  value MT9700  (hidden comment: SY6280AAC)
PCB DECAL: SOT23-5; Source_Path: G:\开发板代码\郭老师资料\IMX6资料\原理图\SABRESDB_DESIGNFILES\DEVELOP\LIBRARY1.OLB
footprint SOT23-5
pins: 1 OUT, 2 GND, 3 ISET, 4 EN, 5 IN

## TJA1057GT3_1
designator U?  value SP3485E  (hidden comment: TJA1057GT3_1)
IC XCVR CAN 4.75-5.25V/2.95-5.25V AEC-Q100 SO8; AGILE_PN: 312-81479; MFG_NAME01: NXP SEMICONDUCTORS; MFG_PN01: TJA1057GT/3; CAD_APPROVED: Yes; PCB DECAL: SOP8; Source_Path: H:\NXP_RT1050\SCH\IMXRT1052_MB.DSN; ROHS: Yes; HEIGHT: 1.75MM; CLASS: IC
footprint SOP8
pins: 1 RXD, 2 ~{RE}, 3 DE, 4 TXD, 5 GND, 6 A, 7 B, 8 VCC

## TJA1057GT3_8P
designator U?  value TJA1042T/3  (hidden comment: TJA1057GT3_8P)
IC XCVR CAN 4.75-5.25V/2.95-5.25V AEC-Q100 SO8; AGILE_PN: 312-81479; MFG_NAME01: NXP SEMICONDUCTORS; MFG_PN01: TJA1057GT/3; CAD_APPROVED: Yes; PCB DECAL: SOP8; Source_Path: Q:\ORCADCIS\SYMBOLS\FCL_IC5.OLB; ROHS: Yes; HEIGHT: 1.75MM; CLASS: IC
footprint SOP8
pins: 1 TXD, 2 GND (power), 3 VCC (power), 4 RXD, 5 VIO (power), 6 CANL (io), 7 CANH (io), 8 S

## U-MP2012DQ_2
designator U?  value POWER-SWICH  (hidden comment: U-MP2012DQ_2)
PCB DECAL: SWITCH_DDSZ; Source_Path: H:\NXP_RT1050\SCH\IMXRT1052_MB.DSN
footprint SWITCH_DDSZ
pins: 1, 2, 3, 4, 5, 6

## USB-A-D_0
designator J?  value USB-A-D  (hidden comment: USB-A-D_0)
Source_Path: D:\NXP_RT1050\RT1050_MB_PRO\SCH\IMXRT1052_MB_PRO_0313.DSN; PCB DECAL: USB-A-D
footprint USB-A-D
part A pins: 1 VBUS, 2 D-, 3 D+, 4 GND, 5 SH1, 6 SH2
part B pins: 7 VBUS, 8 D-, 9 D+, 10 GND, 11 SH1, 12 SH2

## USB_MINI_AB_RECEPTACLE_1
designator J?  value USB_MINI  (hidden comment: USB_MINI_AB_RECEPTACLE_1)
CON 5 USB MICRO_AB RA SKT SMT 0.65MM SP 110H AU; PCB DECAL: MINI_USB_5S; CAD_APPROVED: Yes; Temp_Range: -55&#8451; to 105&#8451;; MFG_PN01: 23970101#LCP-58LF; MFG_NAME01: ANYTRONIC CORPORATION LIMITED; AGILE_PN: 211-80104; Source_Path: D:\NXP_RT1050\RT1050_MB_PRO\SCH\IMXRT1052_MB_PRO_0319.DSN; CLASS: IO; HEIGHT: 2.8MM; ROHS: Yes
footprint MINI_USB_5S
pins: 1 P1, 2 P2, 3 P3, 4 P4, 5 P5, 6 SHLD1, 7 SHLD3, 8 SHLD2, 9 SHLD4
text: 5V; D-; D+; ID; G

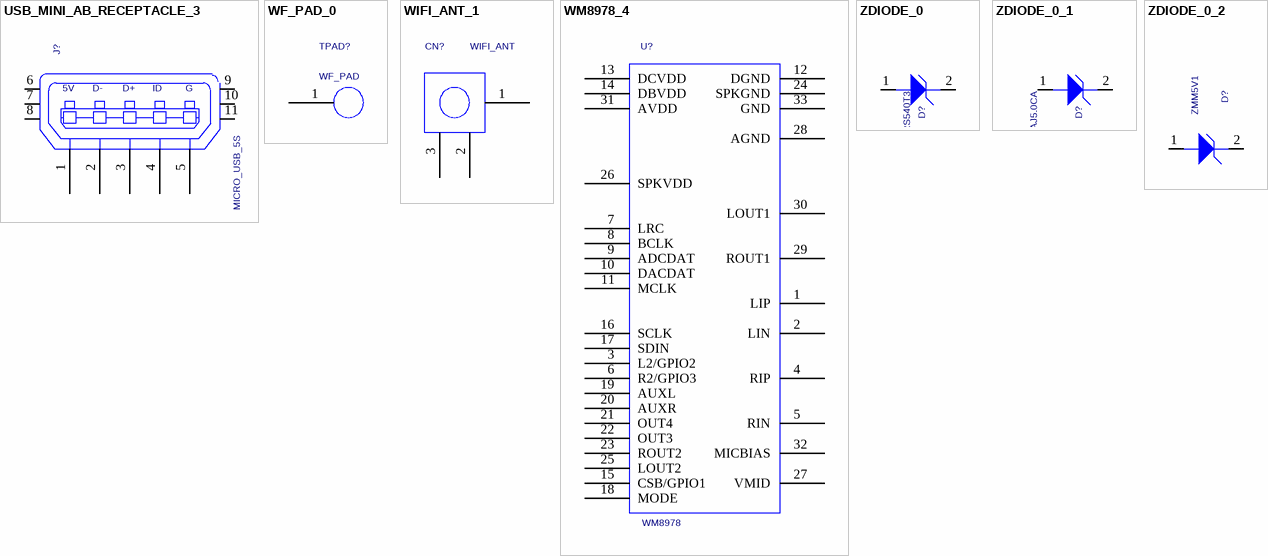
[diagram p3: symbols USB_MINI_AB_RECEPTACLE_3 to ZDIODE_0_2]

## USB_MINI_AB_RECEPTACLE_3
designator J?  value MICRO_USB_5S  (hidden comment: USB_MINI_AB_RECEPTACLE_3)
CON 5 USB MICRO_AB RA SKT SMT 0.65MM SP 110H AU; AGILE_PN: 211-80104; MFG_NAME01: ANYTRONIC CORPORATION LIMITED; MFG_PN01: 23970101#LCP-58LF; Temp_Range: -55&#8451; to 105&#8451;; CAD_APPROVED: Yes; Source_Path: D:\NXP_RT1050\RT1050_MB_PRO\SCH\IMXRT1052_MB_PRO_0418.DSN; CLASS: IO; PCB DECAL: MICRO_USB_5S; ROHS: Yes; HEIGHT: 2.8MM
footprint MICRO_USB_5S
pins: 1 P1, 2 P2, 3 P3, 4 P4, 5 P5, 6 SHLD1, 7 SHLD2, 8 SHLD3, 9 SHLD4, 10 SHLD5, 11 SHLD6
text: 5V; D-; D+; ID; G

## WF_PAD_0
designator TPAD?  value WF_PAD  (hidden comment: WF_PAD_0)
Source_Path: H:\NXP_RT1050\SCH\IMXRT1052_MB.DSN; PCB DECAL: WF_PAD
footprint WF_PAD
pins: 1

## WIFI_ANT_1
designator CN?  value WIFI_ANT  (hidden comment: WIFI_ANT_1)
PCB DECAL: UFL-3; Source_Path: H:\NXP_RT1050\SCH\IMXRT1052_MB.DSN
footprint UFL-3
pins: 1, 2, 3

## WM8978_4
designator U?  value WM8978  (hidden comment: WM8978_4)
PCB DECAL: QFN32; Source_Path: F:\STM32\LITEOS开发板\SCH\LITEOS_EVK.DSN
footprint QFN32
pins: 1 LIP, 2 LIN, 3 L2/GPIO2, 4 RIP, 5 RIN, 6 R2/GPIO3, 7 LRC, 8 BCLK, 9 ADCDAT, 10 DACDAT, 11 MCLK, 12 DGND, 13 DCVDD, 14 DBVDD, 15 CSB/GPIO1, 16 SCLK, 17 SDIN, 18 MODE, 19 AUXL, 20 AUXR, 21 OUT4, 22 OUT3, 23 ROUT2, 24 SPKGND, 25 LOUT2, 26 SPKVDD, 27 VMID, 28 AGND, 29 ROUT1, 30 LOUT1, 31 AVDD, 32 MICBIAS, 33 GND

## ZDIODE_0
designator D?  value MBRS540T3  (hidden comment: ZDIODE_0)
DIODE ZNR -- 0.2W 5.1V AEC-Q101 SOD523; PCB DECAL: SMC; AGILE_PN: 480-77217; MFG_NAME01: ON SEMICONDUCTOR; MFG_PN01: MM5Z5V1ST1G; CAD_APPROVED: Yes; Source_Path: H:\NXP_RT1050\SCH\IMXRT1052_MB.DSN; CLASS: IC; ROHS: Yes; HEIGHT: 0.7MM
footprint SMC
pins: 1 ANODE, 2 CATHODE

## ZDIODE_0_1
designator D?, comment value SMAJ5.0CA  (hidden comment: ZDIODE_0)
DIODE ZNR -- 0.2W 5.1V AEC-Q101 SOD523; CAD_APPROVED: Yes; MFG_PN01: MM5Z5V1ST1G; MFG_NAME01: ON SEMICONDUCTOR; AGILE_PN: 480-77217; PCB DECAL: DO214; Source_Path: H:\NXP_RT1050\SCH\IMXRT1052_MB.DSN; CLASS: IC; HEIGHT: 0.7MM; ROHS: Yes
footprint DO214
pins: 1 ANODE, 2 CATHODE

## ZDIODE_0_2
designator D?, comment value ZMM5V1  (hidden comment: ZDIODE_0)
DIODE ZNR -- 0.2W 5.1V AEC-Q101 SOD523; PCB DECAL: D1206; AGILE_PN: 480-77217; MFG_NAME01: ON SEMICONDUCTOR; MFG_PN01: MM5Z5V1ST1G; CAD_APPROVED: Yes; Source_Path: H:\NXP_RT1050\SCH\IMXRT1052_MB.DSN; CLASS: IC; ROHS: Yes; HEIGHT: 0.7MM
footprint D1206
pins: 1 ANODE, 2 CATHODE